# Altium footprint library TDII_Lib.PcbLib: 53 footprints (part 2 of 4)
Each footprint in its own frame and in the unit in brackets; x right, y up, seen from the top. Pads: shape width x height; smd on the part's side, far side on the other; paste and mask are expansions set on the pad; w line width, h text height; cw(c..) or ccw(c..) is an arc to the next point about the centre after c.
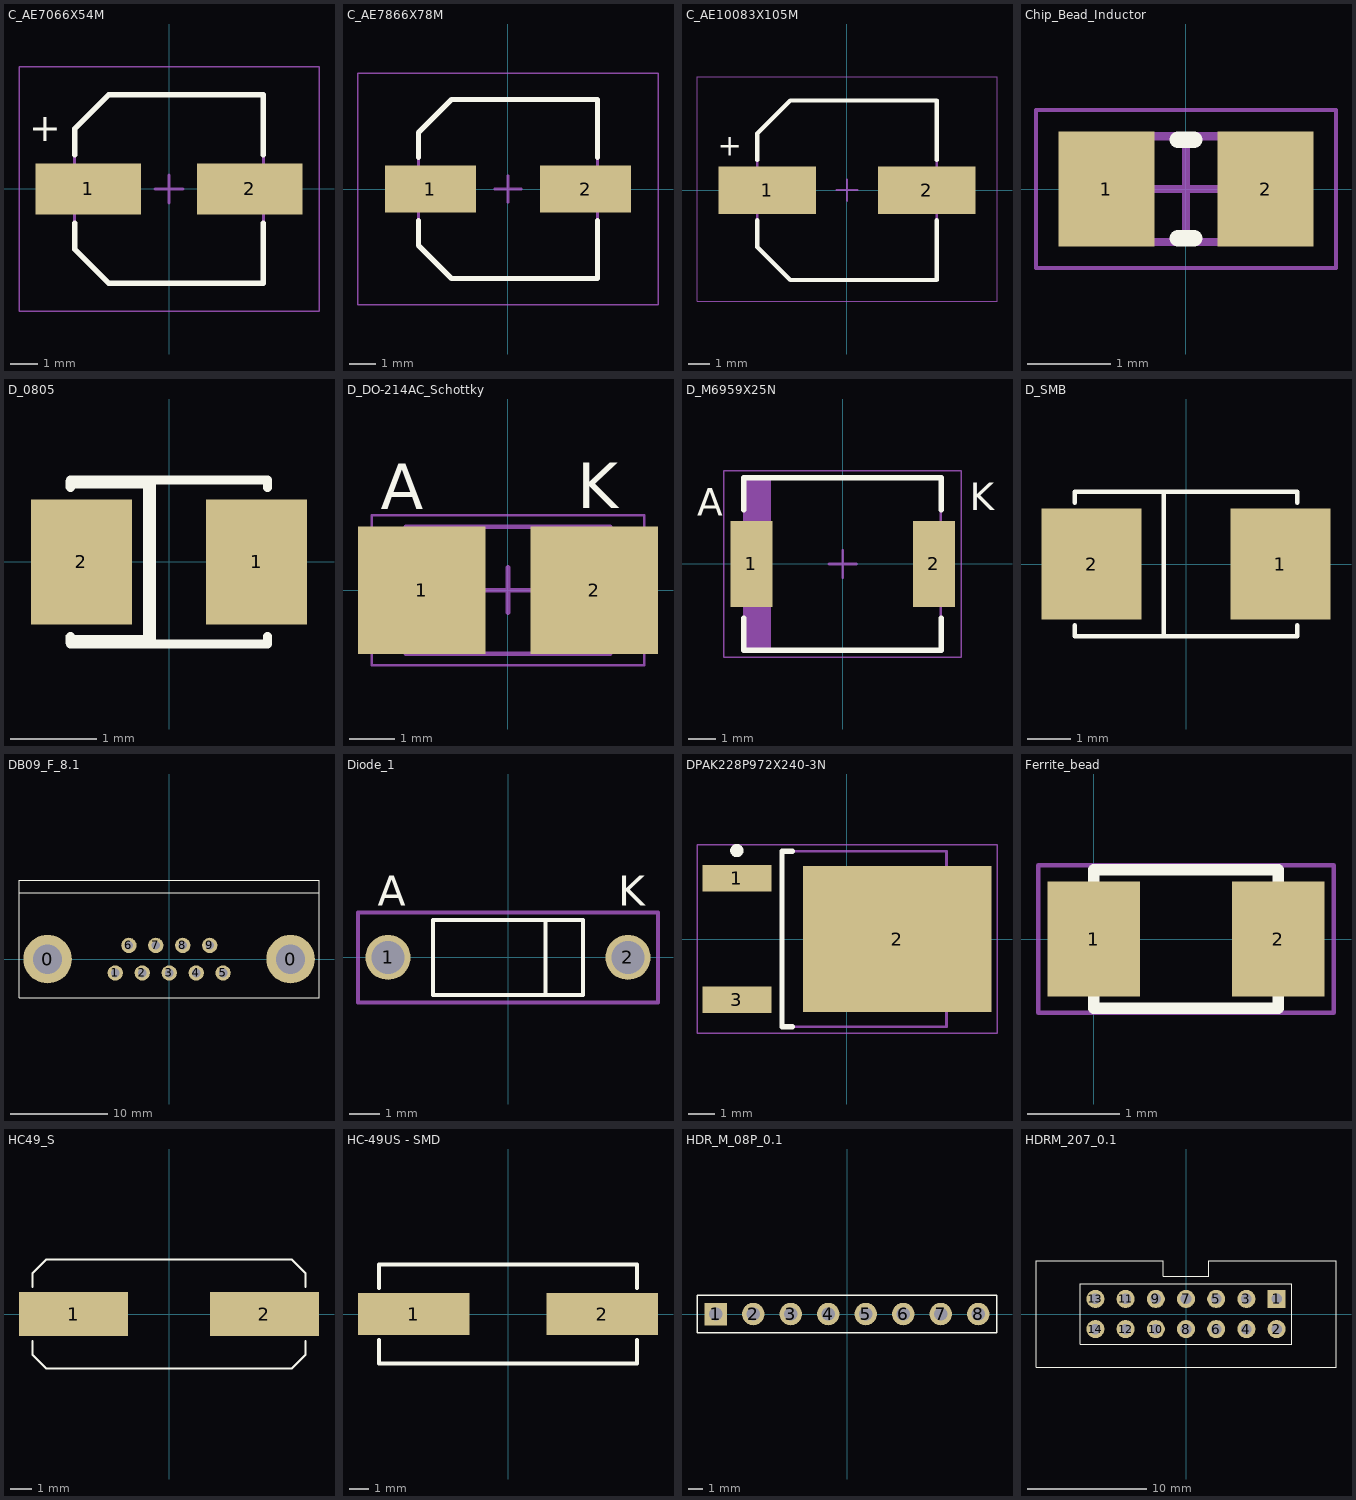
[diagram p1: the footprints below, top view; thin cyan lines are the x and y axes]

## C_AE7066X54M [mm] "Aluminum Electrolytic Capacitor, 100uF, 16V"
height 5.4
pads (2):
  rect 3.8x1.85 smd: 1(-2.9,0) 2(2.9,0)
Top Overlay:
  lines w0.2: -3.4,-1.225 -3.4,-2.163 -2.163,-3.4 3.4,-3.4 3.4,-1.225 ; -3.4,1.225 -3.4,2.163 -2.163,3.4 3.4,3.4 3.4,1.225
  text "+" at -5.029,1.727 h1
Mechanical 13:
  lines w0.1: -3.4,-2.163 -2.163,-3.4 3.4,-3.4 3.4,3.4 -2.163,3.4 -3.4,2.163 -3.4,-2.163
Mechanical 15:
  lines w0.05: -5.4,-4.4 -5.4,4.4 5.4,4.4 5.4,-4.4 -5.4,-4.4
  lines w0.1: -0.5,0 0.5,0 ; 0,-0.5 0,0.5
3D body: height 1.8, standoff 0, extent -3.4,-3.4 3.4,3.4
3D body: height 5.4, standoff 0, extent -3.4,-3.4 3.4,3.398

## C_AE7866X78M [mm] "Aluminum Electrolytic Capacitor, 47uF, 50V"
height 7.8
pads (2):
  rect 3.45x1.8 smd: 1(-2.95,0) 2(2.95,0)
Top Overlay:
  lines w0.2: -3.4,-1.2 -3.4,-2.15 -2.15,-3.4 3.4,-3.4 3.4,-1.2 ; -3.4,1.2 -3.4,2.15 -2.15,3.4 3.4,3.4 3.4,1.2
Mechanical 13:
  lines w0.1: -3.4,-2.15 -3.4,2.15 -2.15,3.4 3.4,3.4 3.4,-3.4 -2.15,-3.4 -3.4,-2.15
Mechanical 15:
  lines w0.05: -5.7,-4.4 5.7,-4.4 5.7,4.4 -5.7,4.4 -5.7,-4.4
  lines w0.1: -0.5,0 0.5,0 ; 0,-0.5 0,0.5
3D body: height 7.8, standoff 0, extent -3.4,-3.4 3.4,3.398
3D body: height 2.6, standoff 0, extent -3.4,-3.4 3.4,3.4

## C_AE10083X105M [mm] "Aluminum Electrolytic Capacitor, 100uF, 50V"
height 10.5
pads (2):
  rect 4.6x2.25 smd: 1(-3.775,0) 2(3.775,0)
Top Overlay:
  lines w0.2: -4.25,-1.425 -4.25,-2.688 -2.687,-4.25 4.25,-4.25 4.25,-1.425 ; -4.25,1.425 -4.25,2.687 -2.687,4.25 4.25,4.25 4.25,1.425
  text "+" at -6.121,1.626 h1
Mechanical 13:
  lines w0.1: -4.25,-2.688 -4.25,2.687 -2.687,4.25 4.25,4.25 4.25,-4.25 -2.687,-4.25 -4.25,-2.688
Mechanical 15:
  lines w0.05: -7.1,-5.25 7.1,-5.25 7.1,5.359 -7.1,5.359 -7.1,-5.25
  lines w0.1: -0.5,0 0.5,0 ; 0,-0.5 0,0.5
3D body: height 10.5, standoff 0, extent -4.25,-4.25 4.25,4.247
3D body: height 3.5, standoff 0, extent -4.25,-4.25 4.25,4.25

## Chip_Bead_Inductor [mm]
height 0.85
pads (2):
  rect 1.15x1.38 smd: 1(-0.955,0) 2(0.955,0)
Top Overlay:
  lines w0.2: -0.1,-0.59 0.1,-0.59 ; -0.1,0.59 0.1,0.59
Mechanical 13:
  lines w0.1: -1.15,-0.635 1.15,-0.635 1.15,0.635 -1.15,0.635 -1.15,-0.635
Mechanical 15:
  lines w0.05: -1.8,-0.95 1.8,-0.95 1.8,0.95 -1.8,0.95 -1.8,-0.95
  lines w0.1: -0.5,0 0.5,0 ; 0,-0.5 0,0.5
3D body: height 0.85, standoff 0, extent 0.65,-0.635 1.15,0.635
3D body: height 0.85, standoff 0, extent -1.15,-0.635 -0.65,0.635
3D body: height 0.85, standoff 0, extent -0.65,-0.635 0.65,0.635

## D_0805 [mm]
pads (2):
  rect 1.175x1.45 smd: 1(1.016,0) 2(-1.016,0)
Top Overlay:
  rectangle: -0.3,-1 -0.15,0.95
  rectangle: -1.2,-0.95 -0.3,-0.85
  rectangle: -1.2,0.85 -0.3,0.95
  lines w0.102: -1.143,-0.864 -1.143,-0.953 1.143,-0.953 1.143,-0.864 ; -1.143,0.864 -1.143,0.953 1.143,0.953 1.143,0.864

## D_DO-214AC_Schottky [mm] "CDBA140-G"
height 2.29
pads (2):
  rect 2.8x2.8 smd: 1(-1.9,0) 2(1.9,0)
Top Overlay:
  text "K" at 1.524,1.803 h1
  text "A" at -2.794,1.778 h1
Mechanical 13:
  rectangle: 1.645,-1.395 2.25,1.395
  lines w0.1: -2.25,-1.395 2.25,-1.395 2.25,1.395 -2.25,1.395 -2.25,-1.395
Mechanical 15:
  lines w0.05: -3,-1.65 3,-1.65 3,1.65 -3,1.65 -3,-1.65
  lines w0.1: -0.5,0 0.5,0 ; 0,-0.5 0,0.5
3D body: height 2.29, standoff 0, extent -2.25,-1.395 2.25,1.395

## D_M6959X25N [mm] "Diodo STPS3L40-Y"
height 2.45
pads (2):
  rect 1.54x3.14 smd: 1(-3.325,0) 2(3.325,0)
Top Overlay:
  lines w0.2: -3.6,-1.97 -3.6,-3.15 3.6,-3.15 3.6,-1.97 ; -3.6,1.97 -3.6,3.15 3.6,3.15 3.6,1.97
  text "A" at -5.309,1.753 h1
  text "K" at 4.623,1.956 h1
Mechanical 13:
  rectangle: -3.575,-3.125 -2.613,3.125
  lines w0.1: -3.575,-3.125 3.575,-3.125 3.575,3.125 -3.575,3.125 -3.575,-3.125
Mechanical 15:
  lines w0.05: -4.325,-3.4 4.325,-3.4 4.325,3.4 -4.325,3.4 -4.325,-3.4
  lines w0.1: -0.5,0 0.5,0 ; 0,-0.5 0,0.5
3D body: height 2.45, standoff 0, extent -3.575,-3.125 3.575,3.125

## D_SMB [mil]
pads (2):
  rect 90x100 smd: 1(85,0) 2(-85,0)
Top Overlay:
  lines w4: -100,-55 -100,-65 100,-65 100,-55 ; -100,55 -100,65 100,65 100,55 ; -20,-65 -20,65

## DB09_F_8.1 [mil]
pads (11):
  round 196.67 hole 118.33: 0(-492.08,0) 0(492.08,0)
  round 62 hole 35: 1(-217.92,-55.83) 2(-108.75,-55.83) 3(0.42,-55.83) 4(109.58,-55.83) 5(218.75,-55.83) 6(-162.92,55.83) 7(-53.75,55.83) 8(55.42,55.83) 9(164.58,55.83)
Top Overlay:
  lines w4: -607.92,269.17 607.08,269.17 ; -607.92,-155.83 607.08,-155.83 607.08,319.17 -607.92,319.17 -607.92,-155.83

## Diode_1 [mm]
pads (2):
  round 1.5 hole 1.1: 1(-4,0) 2(4,0)
Top Overlay:
  lines w0.127: 1.25,-1.25 1.25,1.25 ; -2.5,-1.25 2.5,-1.25 2.5,1.25 -2.5,1.25 -2.5,-1.25
  text "A" at -4.343,1.727 h1
  text "K" at 3.683,1.727 h1
Mechanical 15:
  lines w0.127: -5,-1.5 -5,1.5 -0.25,1.5 5,1.5 5,-1.5 -5,-1.5

## DPAK228P972X240-3N [mm] "Regulador LM7805"
height 2.4
pads (3):
  rect 2.6x1 smd: 1(-4.15,2.28) 3(-4.15,-2.28)
  rect 7.1x5.5 smd: 2(1.9,0)
Top Overlay:
  circle w0.25: c-4.15,3.33 r0.125
  lines w0.2: -2.05,-3.3 -2.45,-3.3 -2.45,3.3 -2.05,3.3
Mechanical 13:
  lines w0.1: -2.45,-3.3 3.75,-3.3 3.75,3.3 -2.45,3.3 -2.45,-3.3
Mechanical 15:
  lines w0.05: -5.65,-3.55 5.65,-3.55 5.65,3.55 -5.65,3.55 -5.65,-3.55
  lines w0.1: -0.5,0 0.5,0 ; 0,-0.5 0,0.5
3D body: height 2.4, standoff 0.9, extent -2.45,-3.3 3.75,3.3

## Ferrite_bead [mm]
pads (2):
  rect 1x1.25 smd: 1(0,0) 2(2,0)
Top Overlay:
  lines w0.127: 0,-0.75 2,-0.75 2,0.75 0,0.75 0,0 0,-0.75
Mechanical 15:
  lines w0.05: -0.6,-0.8 -0.6,0.8 2.6,0.8 2.6,-0.8 -0.6,-0.8

## HC49_S [mil]
pads (2):
  rect 200x80 smd: 1(-175,0) 2(175,0)
Top Overlay:
  lines w4: -250,-50 -250,-75 -225,-100 225,-100 250,-75 250,-50 ; -250,50 -250,75 -225,100 225,100 250,75 250,50

## HC-49US - SMD [mm] "HC-49US XTAL"
height 4.3
pads (2):
  rect 5.6x2.1 smd: 1(-4.75,0) 2(4.75,0)
Top Overlay:
  lines w0.2: -6.5,-1.3 -6.5,-2.5 6.5,-2.5 6.5,-1.3 ; -6.5,1.3 -6.5,2.5 6.5,2.5 6.5,1.3
3D body "HC-49US-SMD.STEP": height 4.25, standoff 0, extent -6.35,-2.4 6.35,2.4

## HDR_M_08P_0.1 [mil]
pads (8):
  rect 60x60 hole 35: 1(-350,0)
  round 60 hole 35: 2(-250,0) 3(-150,0) 4(-50,0) 5(50,0) 6(150,0) 7(250,0) 8(350,0)
Top Overlay:
  lines w4: -400,-50 -400,50 400,50 400,-50 -400,-50

## HDRM_207_0.1 [mil]
pads (14):
  rect 60x60 hole 35: 1(300,50)
  round 60 hole 35: 2(300,-50) 3(200,50) 4(200,-50) 5(100,50) 6(100,-50) 7(0,50) 8(0,-50) 9(-100,50) 10(-100,-50) 11(-200,50) 12(-200,-50) 13(-300,50) 14(-300,-50)
Top Overlay:
  lines w4: -496.85,-177.17 496.85,-177.17 496.85,177.17 75,177.16 75,125 -75,125 -75,177.16 -496.85,177.17 -496.85,-177.17 ; -350,-100 -350,100 350,100 350,-100 -350,-100